# Altium schematic symbol library XN04312Rs232LevelShifter.SchLib: 1 symbol
Pins are listed as number, name and electrical type; pins without a type are passive.

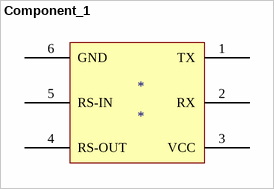
[diagram p0: symbol Component_1]

## Component_1
designator *
footprint PCBComponent_1
pins: 1 TX, 2 RX, 3 VCC, 4 RS-OUT, 5 RS-IN, 6 GND